# Altium footprint library SOT95P237X112-3N.PCBLIB: 1 footprints
Each footprint in its own frame and in the unit in brackets; x right, y up, seen from the top. Pads: shape width x height; smd on the part's side, far side on the other; paste and mask are expansions set on the pad; w line width, h text height; cw(c..) or ccw(c..) is an arc to the next point about the centre after c.
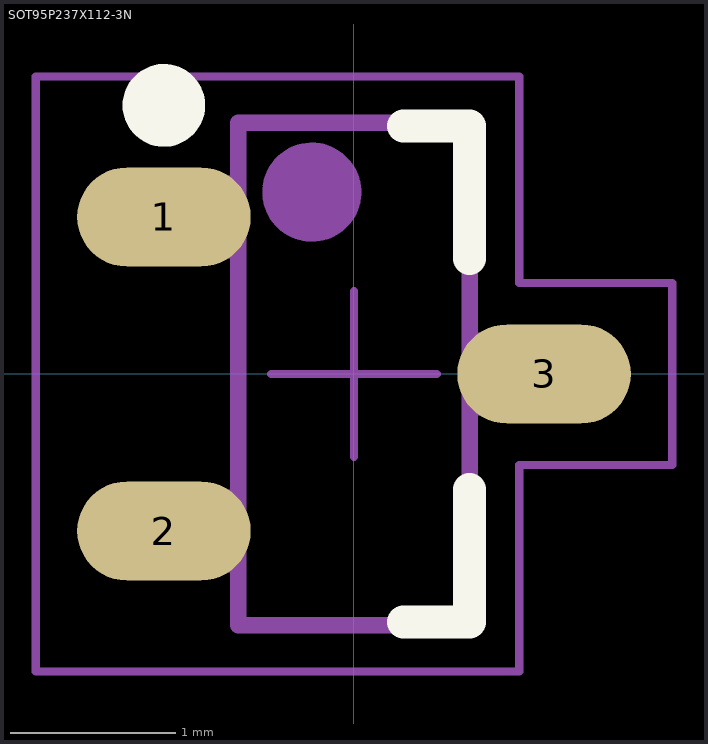
[diagram p0: the footprint, top view; thin cyan lines are the x and y axes]

## SOT95P237X112-3N [mm]
height 1.12
pads (3):
  oval 1.05x0.6 smd: 1(-1.15,0.95) 2(-1.15,-0.95) 3(1.15,0)
Top Overlay:
  circle w0.25: c-1.15,1.625 r0.125
  lines w0.2: 0.3,-1.5 0.7,-1.5 0.7,-0.7 ; 0.3,1.5 0.7,1.5 0.7,0.7
Top Assembly:
  circle w0.3: c-0.255,1.1 r0.15
  lines w0.05: -0.7,-1.175 -1.475,-1.175 -1.475,-0.725 -0.7,-0.725 ; -0.7,0.725 -1.475,0.725 -1.475,1.175 -0.7,1.175 ; 0.7,-0.225 1.475,-0.225 1.475,0.225 0.7,0.225
  lines w0.1: -0.7,-1.52 0.7,-1.52 0.7,1.52 -0.7,1.52 -0.7,-1.52
Top Courtyard:
  lines w0.05: -1.925,-1.8 1,-1.8 1,-0.55 1.925,-0.55 1.925,0.55 1,0.55 1,1.8 -1.925,1.8 -1.925,-1.8
Top Designator:
  text ".Designator" at -0.475,0.6 h1
Top Component Center:
  lines w0.05: -0.5,0 0.5,0 ; 0,-0.5 0,0.5
3D body "SOT95P237X112-3L40.STEP": height 1.12, standoff 0, extent -1.185,-1.46 1.185,1.46